# EAGLE library part TPS62133RGTT (library salvador-parts-imported)
3-17V, 2A Step Down Converter
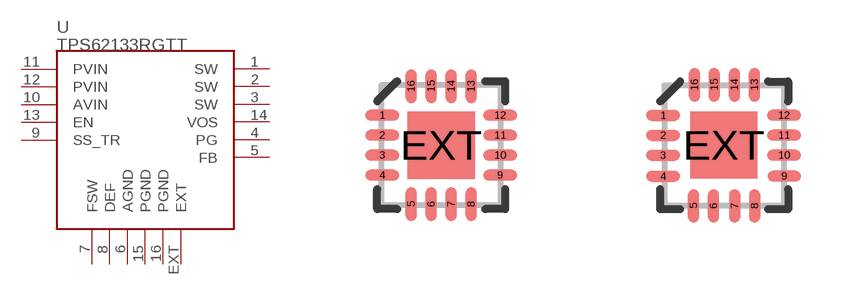
[diagram p31: symbol with the pads of QFN16-3X3MM; footprints QFN16-3X3MM, QFN16-3X3MM_1:1_V02]

Designator prefix U

## TPS62133RGTTV01  [QFN16-3X3MM]
1  SW
2  SW
3  SW
4  PG
5  FB
6  AGND
7  FSW
8  DEF
9  SS_TR
10  AVIN
11  PVIN
12  PVIN
13  EN
14  VOS
15  PGND
16  PGND
EXT  EXT

## TPS62133RGTTV02  [QFN16-3X3MM_1:1_V02]
Pads as for QFN16-3X3MM

## TPS62133RGTT"" (PROD_ID: IC-11155)  [QFN16-3X3MM_1:1_V03]
Pads as for QFN16-3X3MM

## Footprint QFN16-3X3MM (pad centres in mm)
3mm x 3mm QFN 16 pin
smd 0.85 x 0.28: 1 -1.475,0.75; 2 -1.475,0.25; 3 -1.475,-0.25; 4 -1.475,-0.75; 9 1.475,-0.75; 10 1.475,-0.25; 11 1.475,0.25; 12 1.475,0.75
smd 0.28 x 0.85: 5 -0.75,-1.475; 6 -0.25,-1.475; 7 0.25,-1.475; 8 0.75,-1.475; 13 0.75,1.475; 14 0.25,1.475; 15 -0.25,1.475; 16 -0.75,1.475
smd 1.68 x 1.68: EXT 0,0

## Footprint QFN16-3X3MM_1:1_V02 (pad centres in mm)
smd 0.85 x 0.28: 1 -1.524,0.75; 2 -1.524,0.253; 3 -1.529,-0.25; 4 -1.527,-0.774; 9 1.503,-0.77; 10 1.498,-0.245; 11 1.498,0.255; 12 1.495,0.755
smd 0.28 x 0.85: 5 -0.765,-1.513; 6 -0.265,-1.513; 7 0.263,-1.513; 8 0.763,-1.513; 13 0.758,1.518; 14 0.258,1.518; 15 -0.247,1.518; 16 -0.742,1.518
smd 1.68 x 1.68: EXT -0.009,0.008

## Footprint QFN16-3X3MM_1:1_V03 (pad centres in mm)
smd 0.85 x 0.28: 1 -1.524,0.75; 2 -1.524,0.253; 3 -1.529,-0.25; 4 -1.527,-0.774; 9 1.503,-0.77; 10 1.498,-0.245; 11 1.498,0.255; 12 1.495,0.755
smd 0.28 x 0.85: 5 -0.765,-1.513; 6 -0.265,-1.513; 7 0.263,-1.513; 8 0.763,-1.513; 13 0.758,1.518; 14 0.258,1.518; 15 -0.247,1.518; 16 -0.742,1.518
smd 1.68 x 1.68: EXT -0.009,0.008